# Altium schematic symbol library MAX11600EKAT.SchLib: 1 symbol
Pins are listed as number, name and electrical type; pins without a type are passive.

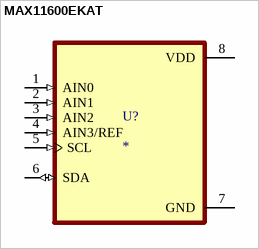
[diagram p0: symbol MAX11600EKAT]

## MAX11600EKAT
designator U?
8 Bit Analog to Digital Converter 2, 4 Input 1 SAR SOT-23-8; MP: MAX11600EKA+T; MF: Maxim Integrated; SnapEDA_Link: https://www.snapeda.com/parts/MAX11600EKA+T/Maxim%20Integrated/view-part/609916/?ref=snap; Value: *; Availability: In Stock; Purchase-URL: https://pricing.snapeda.com/search/part/MAX11600EKA+T/?ref=eda; Check_prices: https://www.snapeda.com/parts/MAX11600EKA+T/Maxim%20Integrated/view-part/609916/?ref=eda; Package: SOT-8 Maxim; Price: None
footprint SOT65P280X145-8N
pins: 1 AIN0 (in), 2 AIN1 (in), 3 AIN2 (in), 4 AIN3/REF (in), 5 SCL (in), 6 SDA (io), 7 GND (power), 8 VDD (power)